# Altium footprint library WP-RAFU.PcbLib: 30 footprints (part 2 of 2)
Each footprint in its own frame and in the unit in brackets; x right, y up, seen from the top. Pads: shape width x height; smd on the part's side, far side on the other; paste and mask are expansions set on the pad; w line width, h text height; cw(c..) or ccw(c..) is an arc to the next point about the centre after c.
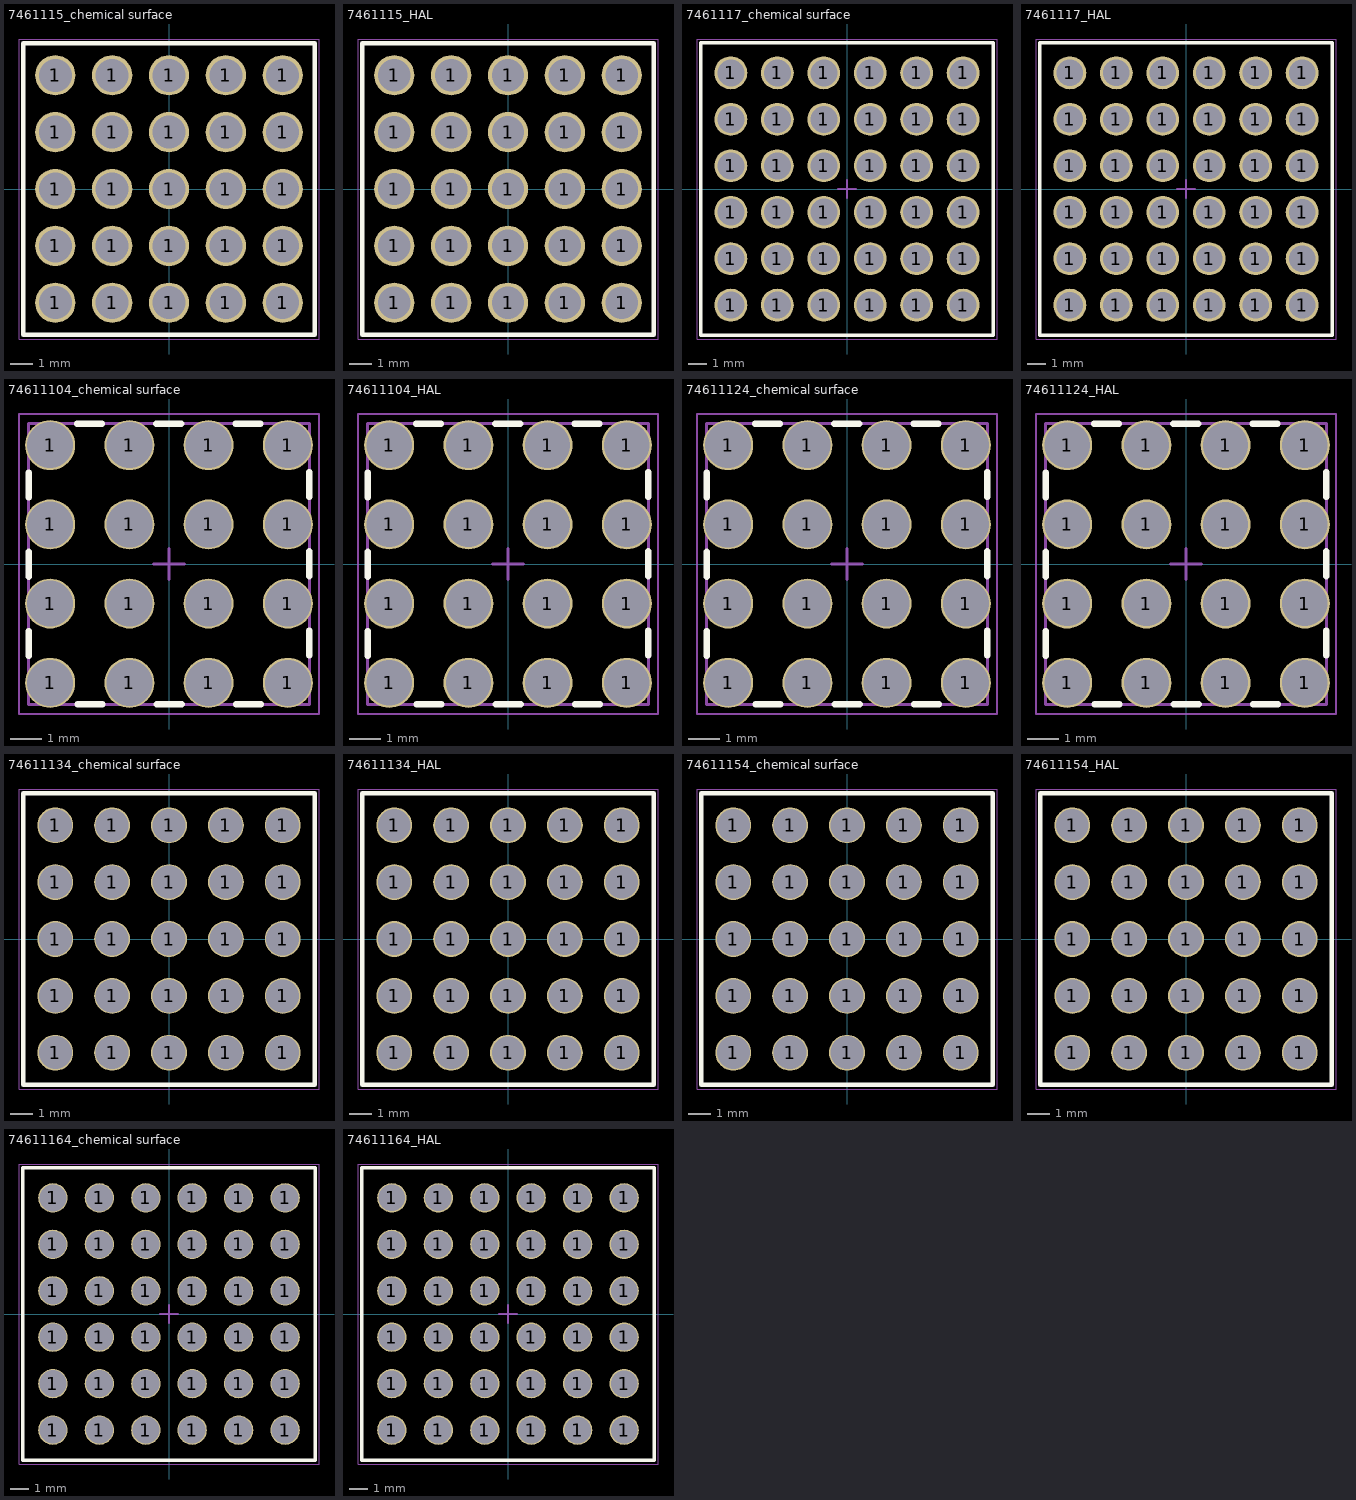
[diagram p1: the footprints below, top view; thin cyan lines are the x and y axes]

## 7461115_chemical surface [mm] "ID6.2mm, thrh 8mm"
height 20
pads (25):
  round 1.8 hole 1.475: 1(-5.08,-5.08) 1(-5.08,-2.54) 1(-5.08,0) 1(-5.08,2.54) 1(-5.08,5.08) 1(-2.54,-5.08) 1(-2.54,-2.54) 1(-2.54,0) 1(-2.54,2.54) 1(-2.54,5.08) 1(0,-5.08) 1(0,-2.54) 1(0,0) 1(0,2.54) 1(0,5.08) 1(2.54,-5.08) 1(2.54,-2.54) 1(2.54,0) 1(2.54,2.54) 1(2.54,5.08) 1(5.08,-5.08) 1(5.08,-2.54) 1(5.08,0) 1(5.08,2.54) 1(5.08,5.08)
Top Overlay:
  lines w0.2: -6.5,-6.5 6.5,-6.5 6.5,6.5 -6.5,6.5 -6.5,-6.5
Top Assembly:
  lines w0.1: -6.5,-6.5 -6.5,6.5 6.5,6.5 6.5,-6.5 -6.5,-6.5
Top Designator:
  text ".Designator" at -3.647,-0.357 h1
Top Courtyard:
  lines w0.05: -6.7,-6.7 -6.7,6.7 6.7,6.7 6.7,-6.7 -6.7,-6.7
Top Component Center:
  lines w0.1: -0.5,0 0.5,0 ; 0,-0.5 0,0.5
3D body "7461115.stp": height 20, standoff -3.5, extent -6.5,-6.5 6.5,6.5

## 7461115_HAL [mm] "ID6.2mm, thrh 8mm"
height 20
pads (25):
  round 1.8 hole 1.45: 1(-5.08,-5.08) 1(-5.08,-2.54) 1(-5.08,0) 1(-5.08,2.54) 1(-5.08,5.08) 1(-2.54,-5.08) 1(-2.54,-2.54) 1(-2.54,0) 1(-2.54,2.54) 1(-2.54,5.08) 1(0,-5.08) 1(0,-2.54) 1(0,0) 1(0,2.54) 1(0,5.08) 1(2.54,-5.08) 1(2.54,-2.54) 1(2.54,0) 1(2.54,2.54) 1(2.54,5.08) 1(5.08,-5.08) 1(5.08,-2.54) 1(5.08,0) 1(5.08,2.54) 1(5.08,5.08)
Top Overlay:
  lines w0.2: -6.5,-6.5 -6.5,6.5 6.5,6.5 6.5,-6.5 -6.5,-6.5
Top Assembly:
  lines w0.1: -6.5,-6.5 6.5,-6.5 6.5,6.5 -6.5,6.5 -6.5,-6.5
Top Designator:
  text ".Designator" at -3.647,-0.357 h1
Top Courtyard:
  lines w0.05: -6.7,-6.7 6.7,-6.7 6.7,6.7 -6.7,6.7 -6.7,-6.7
Top Component Center:
  lines w0.1: -0.5,0 0.5,0 ; 0,-0.5 0,0.5
3D body "7461115.stp": height 20, standoff -3.5, extent -6.5,-6.5 6.5,6.5

## 7461117_chemical surface [mm] "M10, thr 10mm"
height 25
pads (36):
  round 1.8 hole 1.475: 1(-6.35,-6.35) 1(-6.35,-3.81) 1(-6.35,-1.27) 1(-6.35,1.27) 1(-6.35,3.81) 1(-6.35,6.35) 1(-3.81,-6.35) 1(-3.81,-3.81) 1(-3.81,-1.27) 1(-3.81,1.27) 1(-3.81,3.81) 1(-3.81,6.35) 1(-1.27,-6.35) 1(-1.27,-3.81) 1(-1.27,-1.27) 1(-1.27,1.27) 1(-1.27,3.81) 1(-1.27,6.35) 1(1.27,-6.35) 1(1.27,-3.81) 1(1.27,-1.27) 1(1.27,1.27) 1(1.27,3.81) 1(1.27,6.35) 1(3.81,-6.35) 1(3.81,-3.81) 1(3.81,-1.27) 1(3.81,1.27) 1(3.81,3.81) 1(3.81,6.35) 1(6.35,-6.35) 1(6.35,-3.81) 1(6.35,-1.27) 1(6.35,1.27) 1(6.35,3.81) 1(6.35,6.35)
Top Overlay:
  lines w0.2: -8,-8 8,-8 8,8 -8,8 -8,-8
Top Assembly:
  lines w0.1: -8,-8 -8,8 8,8 8,-8 -8,-8
Top Designator:
  text ".Designator" at -3.647,-0.357 h1
Top Courtyard:
  lines w0.05: -8.2,-8.2 8.2,-8.2 8.2,8.2 -8.2,8.2 -8.2,-8.2
Top Component Center:
  lines w0.1: -0.5,0 0.5,0 ; 0,-0.5 0,0.5
3D body "7461117.stp": height 25, standoff -3.5, extent -8,-8 8,8

## 7461117_HAL [mm] "M10, thr 10mm"
height 25
pads (36):
  round 1.8 hole 1.45: 1(-6.35,-6.35) 1(-6.35,-3.81) 1(-6.35,-1.27) 1(-6.35,1.27) 1(-6.35,3.81) 1(-6.35,6.35) 1(-3.81,-6.35) 1(-3.81,-3.81) 1(-3.81,-1.27) 1(-3.81,1.27) 1(-3.81,3.81) 1(-3.81,6.35) 1(-1.27,-6.35) 1(-1.27,-3.81) 1(-1.27,-1.27) 1(-1.27,1.27) 1(-1.27,3.81) 1(-1.27,6.35) 1(1.27,-6.35) 1(1.27,-3.81) 1(1.27,-1.27) 1(1.27,1.27) 1(1.27,3.81) 1(1.27,6.35) 1(3.81,-6.35) 1(3.81,-3.81) 1(3.81,-1.27) 1(3.81,1.27) 1(3.81,3.81) 1(3.81,6.35) 1(6.35,-6.35) 1(6.35,-3.81) 1(6.35,-1.27) 1(6.35,1.27) 1(6.35,3.81) 1(6.35,6.35)
Top Overlay:
  lines w0.2: -8,-8 -8,8 8,8 8,-8 -8,-8
Top Assembly:
  lines w0.1: -8,-8 8,-8 8,8 -8,8 -8,-8
Top Designator:
  text ".Designator" at -3.647,-0.357 h1
Top Courtyard:
  lines w0.05: -8.2,-8.2 -8.2,8.2 8.2,8.2 8.2,-8.2 -8.2,-8.2
Top Component Center:
  lines w0.1: -0.5,0 0.5,0 ; 0,-0.5 0,0.5
3D body "7461117.stp": height 25, standoff -3.5, extent -8,-8 8,8

## 74611104_chemical surface [mm] "REDCUBE PRESS-FIT right angled U-shape with full plain pin-plate"
height 30
pads (16):
  round 1.6 hole 1.475: 1(-3.81,-3.81) 1(-3.81,-1.27) 1(-3.81,1.27) 1(-3.81,3.81) 1(-1.27,-3.81) 1(-1.27,-1.27) 1(-1.27,1.27) 1(-1.27,3.81) 1(1.27,-3.81) 1(1.27,-1.27) 1(1.27,1.27) 1(1.27,3.81) 1(3.81,-3.81) 1(3.81,-1.27) 1(3.81,1.27) 1(3.81,3.81)
Top Overlay:
  lines w0.2: -4.5,-2.95 -4.5,-2.15 ; -4.5,-0.41 -4.5,0.39 ; -4.5,2.13 -4.5,2.93 ; -2.95,4.5 -2.15,4.5 ; -2.93,-4.5 -2.13,-4.5 ; -0.41,4.5 0.39,4.5 ; -0.39,-4.5 0.41,-4.5 ; 2.13,4.5 2.93,4.5 ; 2.15,-4.5 2.95,-4.5 ; 4.5,-2.93 4.5,-2.13 ; 4.5,-0.39 4.5,0.41 ; 4.5,2.15 4.5,2.95
Top Assembly:
  lines w0.1: -4.5,-4.5 -4.5,4.5 4.5,4.5 4.5,-4.5 -4.5,-4.5
Top Designator:
  text ".Designator" at -3.647,-0.357 h1
Top Courtyard:
  lines w0.05: -4.81,-4.81 4.81,-4.81 4.81,4.81 -4.81,4.81 -4.81,-4.81
Top Component Center:
  lines w0.1: -0.5,0 0.5,0 ; 0,-0.5 0,0.5
3D body "74611104.stp": height 30, standoff -3.5, extent -4.5,-4.5 4.5,4.5

## 74611104_HAL [mm] "REDCUBE PRESS-FIT right angled U-shape with full plain pin-plate"
height 30
pads (16):
  round 1.6 hole 1.45: 1(-3.81,-3.81) 1(-3.81,-1.27) 1(-3.81,1.27) 1(-3.81,3.81) 1(-1.27,-3.81) 1(-1.27,-1.27) 1(-1.27,1.27) 1(-1.27,3.81) 1(1.27,-3.81) 1(1.27,-1.27) 1(1.27,1.27) 1(1.27,3.81) 1(3.81,-3.81) 1(3.81,-1.27) 1(3.81,1.27) 1(3.81,3.81)
Top Overlay:
  lines w0.2: -4.5,-2.95 -4.5,-2.15 ; -4.5,-0.41 -4.5,0.39 ; -4.5,2.13 -4.5,2.93 ; -2.95,4.5 -2.15,4.5 ; -2.93,-4.5 -2.13,-4.5 ; -0.41,4.5 0.39,4.5 ; -0.39,-4.5 0.41,-4.5 ; 2.13,4.5 2.93,4.5 ; 2.15,-4.5 2.95,-4.5 ; 4.5,-2.93 4.5,-2.13 ; 4.5,-0.39 4.5,0.41 ; 4.5,2.15 4.5,2.95
Top Assembly:
  lines w0.1: -4.5,-4.5 -4.5,4.5 4.5,4.5 4.5,-4.5 -4.5,-4.5
Top Designator:
  text ".Designator" at -3.647,-0.357 h1
Top Courtyard:
  lines w0.05: -4.81,-4.81 4.81,-4.81 4.81,4.81 -4.81,4.81 -4.81,-4.81
Top Component Center:
  lines w0.1: -0.5,0 0.5,0 ; 0,-0.5 0,0.5
3D body "74611104.stp": height 30, standoff -3.5, extent -4.5,-4.5 4.5,4.5

## 74611124_chemical surface [mm] "REDCUBE PRESS-FIT right angled U-shape with full plain pin-plate"
height 30
pads (16):
  round 1.6 hole 1.475: 1(-3.81,-3.81) 1(-3.81,-1.27) 1(-3.81,1.27) 1(-3.81,3.81) 1(-1.27,-3.81) 1(-1.27,-1.27) 1(-1.27,1.27) 1(-1.27,3.81) 1(1.27,-3.81) 1(1.27,-1.27) 1(1.27,1.27) 1(1.27,3.81) 1(3.81,-3.81) 1(3.81,-1.27) 1(3.81,1.27) 1(3.81,3.81)
Top Overlay:
  lines w0.2: -4.5,-2.95 -4.5,-2.15 ; -4.5,-0.41 -4.5,0.39 ; -4.5,2.13 -4.5,2.93 ; -2.95,4.5 -2.15,4.5 ; -2.93,-4.5 -2.13,-4.5 ; -0.41,4.5 0.39,4.5 ; -0.39,-4.5 0.41,-4.5 ; 2.13,4.5 2.93,4.5 ; 2.15,-4.5 2.95,-4.5 ; 4.5,-2.93 4.5,-2.13 ; 4.5,-0.39 4.5,0.41 ; 4.5,2.15 4.5,2.95
Top Assembly:
  lines w0.1: -4.5,-4.5 -4.5,4.5 4.5,4.5 4.5,-4.5 -4.5,-4.5
Top Designator:
  text ".Designator" at -3.647,-0.357 h1
Top Courtyard:
  lines w0.05: -4.81,-4.81 4.81,-4.81 4.81,4.81 -4.81,4.81 -4.81,-4.81
Top Component Center:
  lines w0.1: -0.5,0 0.5,0 ; 0,-0.5 0,0.5
3D body "74611124.stp": height 30, standoff -3.5, extent -4.5,-4.5 4.5,4.5

## 74611124_HAL [mm] "REDCUBE PRESS-FIT right angled U-shape with full plain pin-plate"
height 30
pads (16):
  round 1.6 hole 1.45: 1(-3.81,-3.81) 1(-3.81,-1.27) 1(-3.81,1.27) 1(-3.81,3.81) 1(-1.27,-3.81) 1(-1.27,-1.27) 1(-1.27,1.27) 1(-1.27,3.81) 1(1.27,-3.81) 1(1.27,-1.27) 1(1.27,1.27) 1(1.27,3.81) 1(3.81,-3.81) 1(3.81,-1.27) 1(3.81,1.27) 1(3.81,3.81)
Top Overlay:
  lines w0.2: -4.5,-2.95 -4.5,-2.15 ; -4.5,-0.41 -4.5,0.39 ; -4.5,2.13 -4.5,2.93 ; -2.95,4.5 -2.15,4.5 ; -2.93,-4.5 -2.13,-4.5 ; -0.41,4.5 0.39,4.5 ; -0.39,-4.5 0.41,-4.5 ; 2.13,4.5 2.93,4.5 ; 2.15,-4.5 2.95,-4.5 ; 4.5,-2.93 4.5,-2.13 ; 4.5,-0.39 4.5,0.41 ; 4.5,2.15 4.5,2.95
Top Assembly:
  lines w0.1: -4.5,-4.5 4.5,-4.5 4.5,4.5 -4.5,4.5 -4.5,-4.5
Top Designator:
  text ".Designator" at -3.647,-0.357 h1
Top Courtyard:
  lines w0.05: -4.81,-4.81 -4.81,4.81 4.81,4.81 4.81,-4.81 -4.81,-4.81
Top Component Center:
  lines w0.1: -0.5,0 0.5,0 ; 0,-0.5 0,0.5
3D body "74611124.stp": height 30, standoff -3.5, extent -4.5,-4.5 4.5,4.5

## 74611134_chemical surface [mm] "REDCUBE PRESS-FIT right angled U-shape with full plain pin-plate"
height 36
pads (25):
  round 1.6 hole 1.475: 1(-5.08,-5.08) 1(-5.08,-2.54) 1(-5.08,0) 1(-5.08,2.54) 1(-5.08,5.08) 1(-2.54,-5.08) 1(-2.54,-2.54) 1(-2.54,0) 1(-2.54,2.54) 1(-2.54,5.08) 1(0,-5.08) 1(0,-2.54) 1(0,0) 1(0,2.54) 1(0,5.08) 1(2.54,-5.08) 1(2.54,-2.54) 1(2.54,0) 1(2.54,2.54) 1(2.54,5.08) 1(5.08,-5.08) 1(5.08,-2.54) 1(5.08,0) 1(5.08,2.54) 1(5.08,5.08)
Top Overlay:
  lines w0.2: -6.5,-6.5 6.5,-6.5 6.5,6.5 -6.5,6.5 -6.5,-6.5
Top Assembly:
  lines w0.1: -6.5,-6.5 -6.5,6.5 6.5,6.5 6.5,-6.5 -6.5,-6.5
Top Designator:
  text ".Designator" at -3.647,-0.357 h1
Top Courtyard:
  lines w0.05: -6.7,-6.7 6.7,-6.7 6.7,6.7 -6.7,6.7 -6.7,-6.7
Top Component Center:
  lines w0.1: -0.5,0 0.5,0 ; 0,-0.5 0,0.5
3D body "74611134.stp": height 36, standoff -3.5, extent -6.5,-6.5 6.5,6.5

## 74611134_HAL [mm] "REDCUBE PRESS-FIT right angled U-shape with full plain pin-plate"
height 36
pads (25):
  round 1.6 hole 1.45: 1(-5.08,-5.08) 1(-5.08,-2.54) 1(-5.08,0) 1(-5.08,2.54) 1(-5.08,5.08) 1(-2.54,-5.08) 1(-2.54,-2.54) 1(-2.54,0) 1(-2.54,2.54) 1(-2.54,5.08) 1(0,-5.08) 1(0,-2.54) 1(0,0) 1(0,2.54) 1(0,5.08) 1(2.54,-5.08) 1(2.54,-2.54) 1(2.54,0) 1(2.54,2.54) 1(2.54,5.08) 1(5.08,-5.08) 1(5.08,-2.54) 1(5.08,0) 1(5.08,2.54) 1(5.08,5.08)
Top Overlay:
  lines w0.2: -6.5,-6.5 -6.5,6.5 6.5,6.5 6.5,-6.5 -6.5,-6.5
Top Assembly:
  lines w0.1: -6.5,-6.5 6.5,-6.5 6.5,6.5 -6.5,6.5 -6.5,-6.5
Top Designator:
  text ".Designator" at -3.647,-0.357 h1
Top Courtyard:
  lines w0.05: -6.7,-6.7 -6.7,6.7 6.7,6.7 6.7,-6.7 -6.7,-6.7
Top Component Center:
  lines w0.1: -0.5,0 0.5,0 ; 0,-0.5 0,0.5
3D body "74611134.stp": height 36, standoff -3.5, extent -6.5,-6.5 6.5,6.5

## 74611154_chemical surface [mm] "REDCUBE PRESS-FIT right angled U-shape with full plain pin-plate"
height 36
pads (25):
  round 1.6 hole 1.475: 1(-5.08,-5.08) 1(-5.08,-2.54) 1(-5.08,0) 1(-5.08,2.54) 1(-5.08,5.08) 1(-2.54,-5.08) 1(-2.54,-2.54) 1(-2.54,0) 1(-2.54,2.54) 1(-2.54,5.08) 1(0,-5.08) 1(0,-2.54) 1(0,0) 1(0,2.54) 1(0,5.08) 1(2.54,-5.08) 1(2.54,-2.54) 1(2.54,0) 1(2.54,2.54) 1(2.54,5.08) 1(5.08,-5.08) 1(5.08,-2.54) 1(5.08,0) 1(5.08,2.54) 1(5.08,5.08)
Top Overlay:
  lines w0.2: -6.5,-6.5 -6.5,6.5 6.5,6.5 6.5,-6.5 -6.5,-6.5
Top Designator:
  text ".Designator" at -3.647,-0.357 h1
Top Courtyard:
  lines w0.05: -6.7,-6.7 -6.7,6.7 6.7,6.7 6.7,-6.7 -6.7,-6.7
Top Component Center:
  lines w0.1: -0.5,0 0.5,0 ; 0,-0.5 0,0.5
3D body "74611154.stp": height 36, standoff -3.5, extent -6.5,-6.5 6.5,6.5

## 74611154_HAL [mm] "REDCUBE PRESS-FIT right angled U-shape with full plain pin-plate"
height 36
pads (25):
  round 1.6 hole 1.45: 1(-5.08,-5.08) 1(-5.08,-2.54) 1(-5.08,0) 1(-5.08,2.54) 1(-5.08,5.08) 1(-2.54,-5.08) 1(-2.54,-2.54) 1(-2.54,0) 1(-2.54,2.54) 1(-2.54,5.08) 1(0,-5.08) 1(0,-2.54) 1(0,0) 1(0,2.54) 1(0,5.08) 1(2.54,-5.08) 1(2.54,-2.54) 1(2.54,0) 1(2.54,2.54) 1(2.54,5.08) 1(5.08,-5.08) 1(5.08,-2.54) 1(5.08,0) 1(5.08,2.54) 1(5.08,5.08)
Top Overlay:
  lines w0.2: -6.5,-6.5 6.5,-6.5 6.5,6.5 -6.5,6.5 -6.5,-6.5
Top Designator:
  text ".Designator" at -3.647,-0.357 h1
Top Courtyard:
  lines w0.05: -6.7,-6.7 6.7,-6.7 6.7,6.7 -6.7,6.7 -6.7,-6.7
Top Component Center:
  lines w0.1: -0.5,0 0.5,0 ; 0,-0.5 0,0.5
3D body "74611154.stp": height 36, standoff -3.5, extent -6.5,-6.5 6.5,6.5

## 74611164_chemical surface [mm] "REDCUBE PRESS-FIT right angled U-Shape with full plain pin plate"
height 39
pads (36):
  round 1.6 hole 1.475: 1(-6.35,-6.35) 1(-6.35,-3.81) 1(-6.35,-1.27) 1(-6.35,1.27) 1(-6.35,3.81) 1(-6.35,6.35) 1(-3.81,-6.35) 1(-3.81,-3.81) 1(-3.81,-1.27) 1(-3.81,1.27) 1(-3.81,3.81) 1(-3.81,6.35) 1(-1.27,-6.35) 1(-1.27,-3.81) 1(-1.27,-1.27) 1(-1.27,1.27) 1(-1.27,3.81) 1(-1.27,6.35) 1(1.27,-6.35) 1(1.27,-3.81) 1(1.27,-1.27) 1(1.27,1.27) 1(1.27,3.81) 1(1.27,6.35) 1(3.81,-6.35) 1(3.81,-3.81) 1(3.81,-1.27) 1(3.81,1.27) 1(3.81,3.81) 1(3.81,6.35) 1(6.35,-6.35) 1(6.35,-3.81) 1(6.35,-1.27) 1(6.35,1.27) 1(6.35,3.81) 1(6.35,6.35)
Top Overlay:
  lines w0.2: -8,-8 8,-8 8,8 -8,8 -8,-8
Top Assembly:
  lines w0.1: -8,-8 -8,8 8,8 8,-8 -8,-8
Top Designator:
  text ".Designator" at -3.647,-0.357 h1
Top Courtyard:
  lines w0.05: -8.2,-8.2 8.2,-8.2 8.2,8.2 -8.2,8.2 -8.2,-8.2
Top Component Center:
  lines w0.1: -0.5,0 0.5,0 ; 0,-0.5 0,0.5
3D body "74611164.stp": height 39, standoff -3.5, extent -8,-8 8,8

## 74611164_HAL [mm] "REDCUBE PRESS-FIT right angled U-Shape with full plain pin plate"
height 39
pads (36):
  round 1.6 hole 1.45: 1(-6.35,-6.35) 1(-6.35,-3.81) 1(-6.35,-1.27) 1(-6.35,1.27) 1(-6.35,3.81) 1(-6.35,6.35) 1(-3.81,-6.35) 1(-3.81,-3.81) 1(-3.81,-1.27) 1(-3.81,1.27) 1(-3.81,3.81) 1(-3.81,6.35) 1(-1.27,-6.35) 1(-1.27,-3.81) 1(-1.27,-1.27) 1(-1.27,1.27) 1(-1.27,3.81) 1(-1.27,6.35) 1(1.27,-6.35) 1(1.27,-3.81) 1(1.27,-1.27) 1(1.27,1.27) 1(1.27,3.81) 1(1.27,6.35) 1(3.81,-6.35) 1(3.81,-3.81) 1(3.81,-1.27) 1(3.81,1.27) 1(3.81,3.81) 1(3.81,6.35) 1(6.35,-6.35) 1(6.35,-3.81) 1(6.35,-1.27) 1(6.35,1.27) 1(6.35,3.81) 1(6.35,6.35)
Top Overlay:
  lines w0.2: -8,-8 -8,8 8,8 8,-8 -8,-8
Top Assembly:
  lines w0.1: -8,-8 8,-8 8,8 -8,8 -8,-8
Top Designator:
  text ".Designator" at -3.647,-0.357 h1
Top Courtyard:
  lines w0.05: -8.2,-8.2 -8.2,8.2 8.2,8.2 8.2,-8.2 -8.2,-8.2
Top Component Center:
  lines w0.1: -0.5,0 0.5,0 ; 0,-0.5 0,0.5
3D body "74611164.stp": height 39, standoff -3.5, extent -8,-8 8,8